# Altium schematic symbol library MAX7219.SchLib: 1 symbol
Pins are listed as number, name and electrical type; pins without a type are passive.

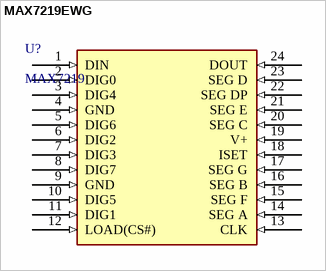
[diagram p0: symbol MAX7219EWG]

## MAX7219EWG
designator U?, comment MAX7219
footprint SO24
pins: 1 DIN (in), 2 DIG0 (in), 3 DIG4 (in), 4 GND (in), 5 DIG6 (in), 6 DIG2 (in), 7 DIG3 (in), 8 DIG7 (in), 9 GND (in), 10 DIG5 (in), 11 DIG1 (in), 12 LOAD(CS#) (in), 13 CLK (in), 14 SEG A (in), 15 SEG F (in), 16 SEG B (in), 17 SEG G (in), 18 ISET (in), 19 V+ (in), 20 SEG C (in), 21 SEG E (in), 22 SEG DP (in), 23 SEG D (in), 24 DOUT (in)